# Altium footprint library FSM6JH.PcbLib: 1 footprints
Each footprint in its own frame and in the unit in brackets; x right, y up, seen from the top. Pads: shape width x height; smd on the part's side, far side on the other; paste and mask are expansions set on the pad; w line width, h text height; cw(c..) or ccw(c..) is an arc to the next point about the centre after c.
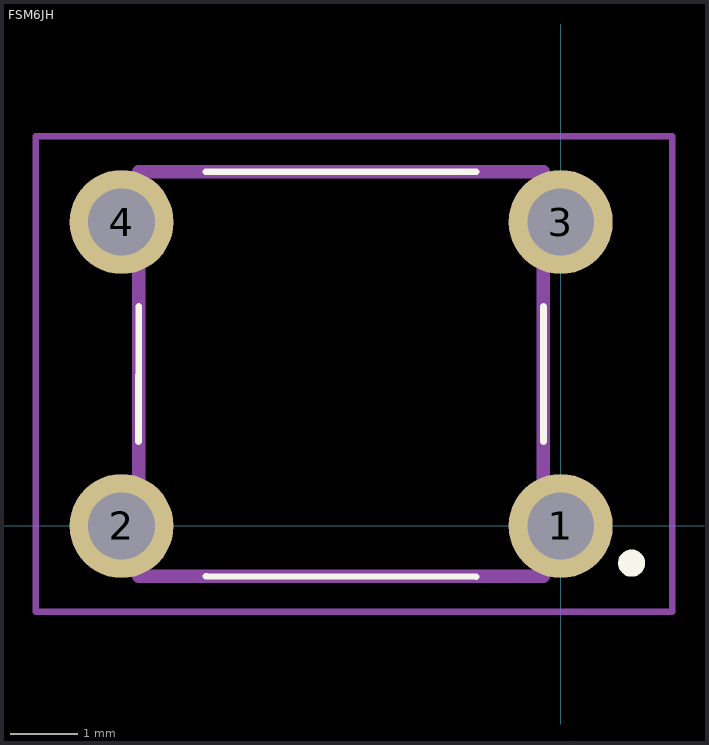
[diagram p0: the footprint, top view; thin cyan lines are the x and y axes]

## FSM6JH [mm]
pads (4):
  round 1.54 hole 0.99: 1(0,0) 2(-6.5,0) 3(0,4.5) 4(-6.5,4.5)
Top Overlay:
  lines w0.1: -6.25,1.25 -6.245,3.25 ; -5.25,-0.745 -1.25,-0.75 ; -5.25,5.245 -1.25,5.245 ; -0.255,1.25 -0.255,3.25
  lines w0.2: 1.05,-0.65 cw(c1.05,-0.55) 1.05,-0.45 ; 1.05,-0.65 1.05,-0.65 ; 1.05,-0.65 ccw(c1.05,-0.55) 1.05,-0.45 ; 1.05,-0.45 1.05,-0.45
Mechanical 15:
  lines w0.2: -6.245,-0.745 -0.255,-0.745 -0.255,5.245 -6.245,5.245 -6.245,-0.745
Mechanical 20:
  lines w0.1: -7.77,-1.27 1.65,-1.27 1.65,5.77 -7.77,5.77 -7.77,-1.27